# Altium integrated library SN74AHC126D.IntLib: 1 symbol
Pins are listed as number, name and electrical type; pins without a type are passive.

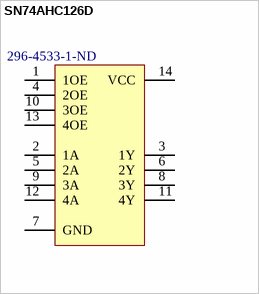
[diagram p0: symbol SN74AHC126D]

## SN74AHC126D
designator U?  Supplier Part Number 1: 296-4533-1-ND
Manufacturer: Texas Instruments; Manufacturer Part Number: SN74AHC126DGVR; Logic Type: Buffer, Non-Inverting; Number of Elements: 4; Number of Bits per Element: 1; Output Type: Push-Pull; Current - Output High, Low: 8mA, 8mA; Voltage - Supply: 2 V ~ 5.5 V; Supplier 1: Digi-Key; RoHS: RoHS Compliant; Category: Integrated Circuits (ICs); Stock 1: 4927; Pricing 1: 1=0.44, 10=0.353, 100=0.2409, 500=0.18032, 1000=0.13505 (USD); Packaging: Cut Tape (CT); Part Status: Active; Input Type: -; Operating Temperature: -40°C ~ 85°C (TA); Mounting Type: Surface Mount; Package / Case: 14-TFSOP (0.173", 4.40mm Width); Supplier Device Package: 14-TVSOP; ComponentLink1URL: http://www.ti.com/lit/ds/symlink/sn74ahc126.pdf; ComponentLink1Description: http://www.ti.com/lit/ds/symlink/sn74ahc126.pdf
footprint SN74AHC126D
pins: 1 1OE, 2 1A, 3 1Y, 4 2OE, 5 2A, 6 2Y, 7 GND, 8 3Y, 9 3A, 10 3OE, 11 4Y, 12 4A, 13 4OE, 14 VCC